# EAGLE library part USB6B1 (library ublox)
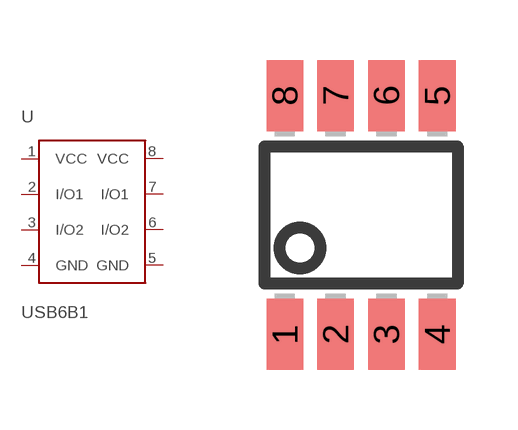
[diagram p12: symbol with the pads of SO-8; footprint SO-8]

Designator prefix -

## USB6B1  [SO-8]
1  VCC
2  I/O1
3  I/O2
4  GND
5  GND
6  I/O2
7  I/O1
8  VCC

## Footprint SO-8 (pad centres in mm)
smd 0.914 x 1.778: 1 -1.905,-2.921; 2 -0.635,-2.921; 3 0.635,-2.921; 4 1.905,-2.921; 5 1.905,3.048; 6 0.635,3.048; 7 -0.635,3.048; 8 -1.905,3.048